# Altium integrated library Cypress PLD Delta39K.IntLib: 82 symbols (part 14 of 21)
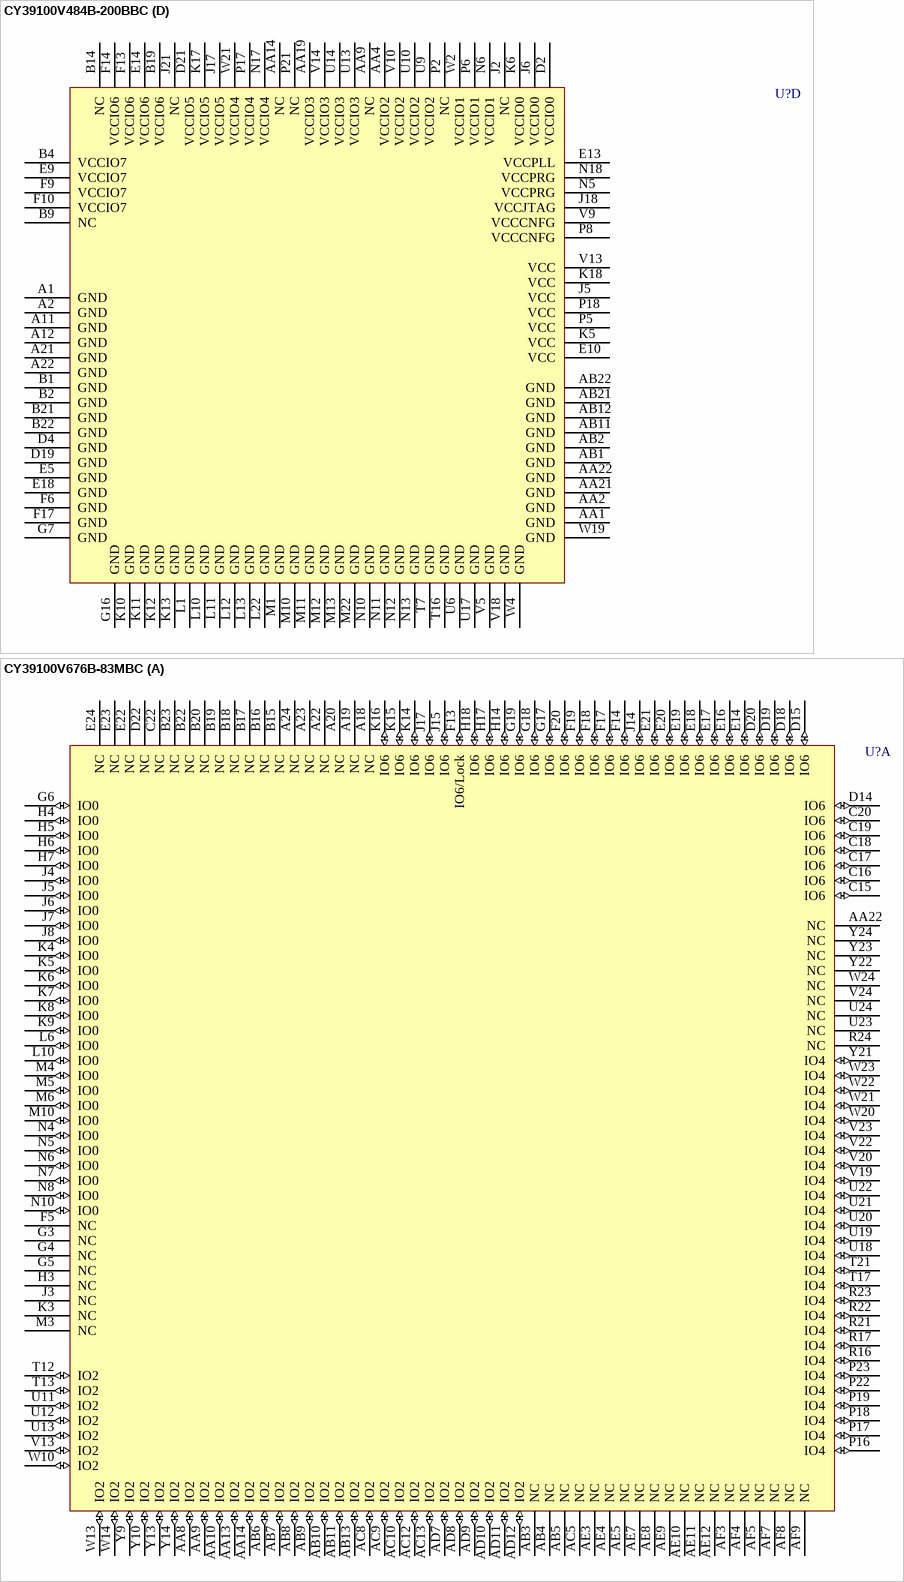
[diagram p91: symbols CY39100V484B-200BBC to CY39100V676B-83MBC]

## CY39100V484B-200BBC
designator U?
Delta39K ISR CPLD, 3.3V/2.5V, 100K Gates, 200 MHz, 484-Ball FBGA, Commercial Grade; Published: 6-Oct-2005; LatestRevisionDate: 13-Apr-2006; LatestRevisionNote: IPC-7351 Footprint Added.; DatasheetVersion: revI, Mar-2005; PackageVersion: Mar-2005; PackageReference: BB484; Publisher: Altium Limited; PackageDescription: 484-Ball Fine Pitch Ball Grid Array 1 mm Pitch; Code_IPC: BGA100P22X22-484; ComponentLink1Description: Manufacturer Link; ComponentLink1URL: http://www.cypress.com/; ComponentLink2Description: Datasheet; ComponentLink2URL: http://www.cypress.com/portal/server.pt/gateway/PTARGS_0_601270_1522_209_0_43/http%3B/sjapp20.mis.cypress.com%3B7001/publishedcontent/publish/design_resources/datasheets/contents/cy39030v_5.pdf
footprint BB484 (BGA, 484-Leads, Body 23x23mm, Pitch 1mm)
3D model CY39100V484-BB484 (484-Ball Fine Pitch Ball Grid Array 1 mm Pitch)
part A pins: A13 IO6 (io) "IO for Bank 6", A14 IO6 (io) "IO for Bank 6", A15 IO6 (io) "IO for Bank 6", A16 IO6 (io) "IO for Bank 6", A17 IO6 (io) "IO for Bank 6", A18 IO6 (io) "IO for Bank 6", A20 NC "No Connection", AA3 NC "No Connection", AA6 IO2 (io) "IO for Bank 2", AA7 IO2 (io) "IO for Bank 2", AA8 IO2 (io) "IO for Bank 2", AA10 IO2 (io) "IO for Bank 2", AA11 IO2 (io) "IO for Bank 2", AB5 IO2 (io) "IO for Bank 2", AB6 IO2 (io) "IO for Bank 2", AB7 IO2 (io) "IO for Bank 2", AB8 IO2 (io) "IO for Bank 2", AB9 IO2 (io) "IO for Bank 2", AB10 IO2 (io) "IO for Bank 2", B12 IO6 (io) "IO for Bank 6", B13 IO6 (io) "IO for Bank 6", B16 IO6 (io) "IO for Bank 6", B17 IO6 (io) "IO for Bank 6", B18 IO6 (io) "IO for Bank 6", B20 NC "No Connection", C12 IO6 (io) "IO for Bank 6", C14 IO6 (io) "IO for Bank 6", C15 IO6 (io) "IO for Bank 6", C16 IO6 (io) "IO for Bank 6", C17 IO6 (io) "IO for Bank 6", C18 IO6 (io) "IO for Bank 6", C19 IO6 (io) "IO for Bank 6", C20 NC "No Connection", C21 NC "No Connection", C22 NC "No Connection", D3 NC "No Connection", D11 IO6/Lock (io) "IO in Bank 6 or PLL lock output signal", D12 IO6 (io) "IO for Bank 6", D15 IO6 (io) "IO for Bank 6", D16 IO6 (io) "IO for Bank 6", D17 IO6 (io) "IO for Bank 6", D18 IO6 (io) "IO for Bank 6", E1 NC "No Connection", E2 NC "No Connection", E3 NC "No Connection", E4 IO0 (io) "IO for Bank 0", E15 IO6 (io) "IO for Bank 6", E16 IO6 (io) "IO for Bank 6", E17 IO6 (io) "IO for Bank 6", F1 NC "No Connection", F2 IO0 (io) "IO for Bank 0", F3 IO0 (io) "IO for Bank 0", F4 IO0 (io) "IO for Bank 0", F5 IO0 (io) "IO for Bank 0", F12 IO6 (io) "IO for Bank 6", F15 IO6 (io) "IO for Bank 6", F16 IO6 (io) "IO for Bank 6", G1 NC "No Connection", G2 IO0 (io) "IO for Bank 0", G3 IO0 (io) "IO for Bank 0", G4 IO0 (io) "IO for Bank 0", G5 IO0 (io) "IO for Bank 0", G6 IO0 (io) "IO for Bank 0", G12 IO6 (io) "IO for Bank 6", G13 IO6 (io) "IO for Bank 6", G15 IO6 (io) "IO for Bank 6", H1 NC "No Connection", H2 IO0 (io) "IO for Bank 0", H3 IO0 (io) "IO for Bank 0", H4 IO0 (io) "IO for Bank 0", H5 IO0 (io) "IO for Bank 0", H6 IO0 (io) "IO for Bank 0", H7 IO0 (io) "IO for Bank 0", H12 IO6 (io) "IO for Bank 6", H13 IO6 (io) "IO for Bank 6", H14 IO6 (io) "IO for Bank 6", J4 IO0 (io) "IO for Bank 0", J8 IO0 (io) "IO for Bank 0", K1 NC "No Connection", K2 IO0 (io) "IO for Bank 0", K3 IO0 (io) "IO for Bank 0", K4 IO0 (io) "IO for Bank 0", K8 IO0 (io) "IO for Bank 0", L2 IO0 (io) "IO for Bank 0", L3 IO0 (io) "IO for Bank 0", L4 IO0 (io) "IO for Bank 0", L5 IO0 (io) "IO for Bank 0", L6 IO0 (io) "IO for Bank 0", L8 IO0 (io) "IO for Bank 0", M14 IO4 (io) "IO for Bank 4", M15 IO4 (io) "IO for Bank 4", M16 IO4 (io) "IO for Bank 4", M17 IO4 (io) "IO for Bank 4", M20 IO4 (io) "IO for Bank 4", M21 IO4 (io) "IO for Bank 4", N14 IO4 (io) "IO for Bank 4", N15 IO4 (io) "IO for Bank 4", N19 IO4 (io) "IO for Bank 4", N20 IO4 (io) "IO for Bank 4", N21 IO4 (io) "IO for Bank 4", N22 NC "No Connection", P10 IO2 (io) "IO for Bank 2", P11 IO2 (io) "IO for Bank 2", P15 IO4 (io) "IO for Bank 4", P19 IO4 (io) "IO for Bank 4", R9 IO2 (io) "IO for Bank 2", R10 IO2 (io) "IO for Bank 2", R11 IO2 (io) "IO for Bank 2", R16 IO4 (io) "IO for Bank 4", R17 IO4 (io) "IO for Bank 4", R18 IO4 (io) "IO for Bank 4", R19 IO4 (io) "IO for Bank 4", R20 IO4 (io) "IO for Bank 4", R21 IO4 (io) "IO for Bank 4", R22 NC "No Connection", T11 IO2 (io) "IO for Bank 2", T17 IO4 (io) "IO for Bank 4", T18 IO4 (io) "IO for Bank 4", T20 IO4 (io) "IO for Bank 4", T21 IO4 (io) "IO for Bank 4", T22 NC "No Connection", U8 IO2 (io) "IO for Bank 2", U11 IO2 (io) "IO for Bank 2", U12 IO2 (io) "IO for Bank 2", U18 IO4 (io) "IO for Bank 4", U19 IO4 (io) "IO for Bank 4", U20 IO4 (io) "IO for Bank 4", U21 IO4 (io) "IO for Bank 4", U22 NC "No Connection", V7 IO2 (io) "IO for Bank 2", V8 IO2 (io) "IO for Bank 2", V11 IO2 (io) "IO for Bank 2", V12 IO2 (io) "IO for Bank 2", V19 NC "No Connection", V20 NC "No Connection", V21 NC "No Connection", V22 NC "No Connection", W6 IO2 (io) "IO for Bank 2", W7 IO2 (io) "IO for Bank 2", W8 IO2 (io) "IO for Bank 2", W11 IO2 (io) "IO for Bank 2", W12 IO2 (io) "IO for Bank 2", W20 NC "No Connection", Y1 NC "No Connection", Y2 NC "No Connection", Y3 NC "No Connection", Y4 IO2 (io) "IO for Bank 2", Y5 IO2 (io) "IO for Bank 2", Y6 IO2 (io) "IO for Bank 2", Y7 IO2 (io) "IO for Bank 2", Y8 IO2 (io) "IO for Bank 2", Y9 IO2 (io) "IO for Bank 2", Y11 IO2 (io) "IO for Bank 2"
part B pins: A5 IO7 (io) "IO for Bank 7", A6 IO7 (io) "IO for Bank 7", A7 IO7 (io) "IO for Bank 7", A8 IO7 (io) "IO for Bank 7", A9 IO7 (io) "IO for Bank 7", A10 IO7 (io) "IO for Bank 7", AA12 IO3 (io) "IO for Bank 3", AA13 IO3 (io) "IO for Bank 3", AA15 IO3 (io) "IO for Bank 3", AA16 IO3 (io) "IO for Bank 3", AA17 IO3 (io) "IO for Bank 3", AA20 NC "No Connection", AB13 IO3 (io) "IO for Bank 3", AB14 IO3 (io) "IO for Bank 3", AB15 IO3 (io) "IO for Bank 3", AB16 IO3 (io) "IO for Bank 3", AB17 IO3 (io) "IO for Bank 3", AB18 IO3 (io) "IO for Bank 3", AB20 NC "No Connection", B3 NC "No Connection", B5 IO7 (io) "IO for Bank 7", B6 IO7 (io) "IO for Bank 7", B7 IO7 (io) "IO for Bank 7", B10 IO7 (io) "IO for Bank 7", B11 IO7 (io) "IO for Bank 7", C1 NC "No Connection", C2 NC "No Connection", C3 NC "No Connection", C4 IO7 (io) "IO for Bank 7", C5 IO7 (io) "IO for Bank 7", C6 IO7 (io) "IO for Bank 7", C7 IO7 (io) "IO for Bank 7", C8 IO7 (io) "IO for Bank 7", C9 IO7 (io) "IO for Bank 7", C11 IO7 (io) "IO for Bank 7", D5 IO7 (io) "IO for Bank 7", D6 IO7 (io) "IO for Bank 7", D7 IO7 (io) "IO for Bank 7", D8 IO7 (io) "IO for Bank 7", D20 NC "No Connection", E6 IO7 (io) "IO for Bank 7", E7 IO7 (io) "IO for Bank 7", E8 IO7 (io) "IO for Bank 7", E20 NC "No Connection", E21 NC "No Connection", E22 NC "No Connection", F7 IO7 (io) "IO for Bank 7", F8 IO7 (io) "IO for Bank 7", F11 IO7 (io) "IO for Bank 7", F19 IO5 (io) "IO for Bank 5", F20 IO5 (io) "IO for Bank 5", F21 IO5 (io) "IO for Bank 5", F22 NC "No Connection", G8 IO7 (io) "IO for Bank 7", G10 IO7 (io) "IO for Bank 7", G11 IO7 (io) "IO for Bank 7", G18 IO5 (io) "IO for Bank 5", G19 IO5 (io) "IO for Bank 5", G20 IO5 (io) "IO for Bank 5", G21 IO5 (io) "IO for Bank 5", G22 NC "No Connection", H8 IO7 (io) "IO for Bank 7", H9 IO7 (io) "IO for Bank 7", H10 IO7 (io) "IO for Bank 7", H11 IO7 (io) "IO for Bank 7", H16 IO5 (io) "IO for Bank 5", H17 IO5 (io) "IO for Bank 5", H18 IO5 (io) "IO for Bank 5", H19 IO5 (io) "IO for Bank 5", H20 IO5 (io) "IO for Bank 5", H21 IO5 (io) "IO for Bank 5", H22 NC "No Connection", J9 IO7 (io) "IO for Bank 7", J14 IO5 (io) "IO for Bank 5", J15 IO5 (io) "IO for Bank 5", J19 IO5 (io) "IO for Bank 5", K15 IO5 (io) "IO for Bank 5", K19 IO5 (io) "IO for Bank 5", K20 IO5 (io) "IO for Bank 5", K21 IO5 (io) "IO for Bank 5", K22 NC "No Connection", L15 IO5 (io) "IO for Bank 5", L17 IO5 (io) "IO for Bank 5", L18 IO5 (io) "IO for Bank 5", L19 IO5 (io) "IO for Bank 5", L20 IO5 (io) "IO for Bank 5", L21 IO5 (io) "IO for Bank 5", M2 IO1 (io) "IO for Bank 1", M3 IO1 (io) "IO for Bank 1", M4 IO1 (io) "IO for Bank 1", M5 IO1 (io) "IO for Bank 1", M6 IO1 (io) "IO for Bank 1", M7 IO1 (io) "IO for Bank 1", M8 IO1 (io) "IO for Bank 1", M9 IO1 (io) "IO for Bank 1", M18 IO5 (io) "IO for Bank 5", M19 IO5 (io) "IO for Bank 5", N1 NC "No Connection", N2 IO1 (io) "IO for Bank 1", N3 IO1 (io) "IO for Bank 1", N4 IO1 (io) "IO for Bank 1", N8 IO1 (io) "IO for Bank 1", N9 IO1 (io) "IO for Bank 1", P4 IO1 (io) "IO for Bank 1", P12 IO3 (io) "IO for Bank 3", P13 IO3 (io) "IO for Bank 3", P14 IO3 (io) "IO for Bank 3", R1 NC "No Connection", R2 IO1 (io) "IO for Bank 1", R3 IO1 (io) "IO for Bank 1", R4 IO1 (io) "IO for Bank 1", R5 IO1 (io) "IO for Bank 1", R6 IO1 (io) "IO for Bank 1", R12 IO3 (io) "IO for Bank 3", R13 IO3 (io) "IO for Bank 3", R14 IO3 (io) "IO for Bank 3", R15 IO3 (io) "IO for Bank 3", T1 NC "No Connection", T2 IO1 (io) "IO for Bank 1", T3 IO1 (io) "IO for Bank 1", T5 IO1 (io) "IO for Bank 1", T6 IO1 (io) "IO for Bank 1", T12 IO3 (io) "IO for Bank 3", T15 IO3 (io) "IO for Bank 3", U1 NC "No Connection", U2 IO1 (io) "IO for Bank 1", U3 IO1 (io) "IO for Bank 1", U4 IO1 (io) "IO for Bank 1", U5 IO1 (io) "IO for Bank 1", U15 IO3 (io) "IO for Bank 3", U16 IO3 (io) "IO for Bank 3", V1 NC "No Connection", V2 NC "No Connection", V3 NC "No Connection", V4 NC "No Connection", V15 IO3 (io) "IO for Bank 3", V16 IO3 (io) "IO for Bank 3", V17 IO3 (io) "IO for Bank 3", W3 NC "No Connection", W15 IO3 (io) "IO for Bank 3", W16 IO3 (io) "IO for Bank 3", W17 IO3 (io) "IO for Bank 3", W18 IO3 (io) "IO for Bank 3", Y12 IO3 (io) "IO for Bank 3", Y14 IO3 (io) "IO for Bank 3", Y15 IO3 (io) "IO for Bank 3", Y16 IO3 (io) "IO for Bank 3", Y17 IO3 (io) "IO for Bank 3", Y18 IO3 (io) "IO for Bank 3", Y19 IO3 (io) "IO for Bank 3", Y20 NC "No Connection", Y21 NC "No Connection", Y22 NC "No Connection"
part C pins: A3 NC "No Connection", A4 NC "No Connection", A19 NC "No Connection", AA5 IO/VREF2 (io) "IO or Reference Voltage for Bank 2", AA18 IO/VREF3 (io) "IO or Reference Voltage for Bank 3", AB3 NC "No Connection", AB4 NC "No Connection", AB19 NC "No Connection", B8 IO/VREF7 (io) "IO or Reference Voltage for Bank 7", B15 IO/VREF6 (io) "IO or Reference Voltage for Bank 6", C10 IO/VREF7 (io) "IO or Reference Voltage for Bank 7", C13 IO/VREF6 (io) "IO or Reference Voltage for Bank 6", D1 NC "No Connection", D9 IO/VREF7 (io) "IO or Reference Voltage for Bank 7", D10 IO/VREF7 (io) "IO or Reference Voltage for Bank 7", D13 IO/VREF6 (io) "IO or Reference Voltage for Bank 6", D14 IO/VREF6 (io) "IO or Reference Voltage for Bank 6", D22 NC "No Connection", E11 IO/VREF7 (io) "IO or Reference Voltage for Bank 7", E12 IO/VREF6 (io) "IO or Reference Voltage for Bank 6", E19 TDO (out) "JTAG Test Data Out", F18 TDI (in) "JTAG Test Data In", G9 IO/VREF7 (io) "IO or Reference Voltage for Bank 7", G14 IO/VREF6 (io) "IO or Reference Voltage for Bank 6", G17 TCLK (in) "JTAG Test Clock", H15 TMS (in) "JTAG Test Mode Select", J1 NC "No Connection", J3 IO/VREF0 (io) "IO or Reference Voltage for Bank 0", J7 IO/VREF0 (io) "IO or Reference Voltage for Bank 0", J10 GCTL3 (in) "Global Control signal 3", J11 GCLK3 (in) "Global Clock signal 3", J12 GCTL2 (in) "Global Control signal 2", J13 GCLK2 (in) "Global Clock signal 2", J16 IO/VREF5 (io) "IO or Reference Voltage for Bank 5", J20 IO/VREF5 (io) "IO or Reference Voltage for Bank 5", J22 NC "No Connection", K7 IO/VREF0 (io) "IO or Reference Voltage for Bank 0", K9 GCTL0 (in) "Global Control signal 0", K14 GCTL1 (in) "Global Control signal 1", K16 IO/VREF5 (io) "IO or Reference Voltage for Bank 5", L7 IO/VREF0 (io) "IO or Reference Voltage for Bank 0", L9 GCLK0 (in) "Global Clock signal 0", L14 GCLK1 (in) "Global Clock signal 1", L16 IO/VREF5 (io) "IO or Reference Voltage for Bank 5", N7 IO/VREF1 (io) "IO or Reference Voltage for Bank 1", N16 IO/VREF4 (io) "IO or Reference Voltage for Bank 4", P1 NC "No Connection", P3 IO/VREF1 (io) "IO or Reference Voltage for Bank 1", P7 IO/VREF1 (io) "IO or Reference Voltage for Bank 1", P9 Config_Done (out) "Flag indicating that configuration is complete", P16 IO/VREF4 (io) "IO or Reference Voltage for Bank 4", P20 IO/VREF4 (io) "IO or Reference Voltage for Bank 4", P22 NC "No Connection", R7 Data (in) "Pin to receive configuration data from the external boot PROM", R8 Reconfig (in) "Pin to start configuration of Delta39K", T4 IO/VREF1 (io) "IO or Reference Voltage for Bank 1", T8 MSEL (in) "Mode Select Pin", T9 IO/VREF2 (io) "IO or Reference Voltage for Bank 2", T10 IO/VREF2 (io) "IO or Reference Voltage for Bank 2", T13 IO/VREF3 (io) "IO or Reference Voltage for Bank 3", T14 IO/VREF3 (io) "IO or Reference Voltage for Bank 3", T19 IO/VREF4 (io) "IO or Reference Voltage for Bank 4", U7 ~{CCE} (out) "Chip select for the external boot PROM (active low)", V6 CCLK (out) "Configuration Clock for serial interface with the external boot PROM", W1 NC "No Connection", W5 Reset (out) "Reset signal to interface with the external boot PROM", W9 IO/VREF2 (io) "IO or Reference Voltage for Bank 2", W10 IO/VREF2 (io) "IO or Reference Voltage for Bank 2", W13 IO/VREF3 (io) "IO or Reference Voltage for Bank 3", W14 IO/VREF3 (io) "IO or Reference Voltage for Bank 3", W22 NC "No Connection", Y10 IO/VREF2 (io) "IO or Reference Voltage for Bank 2", Y13 IO/VREF3 (io) "IO or Reference Voltage for Bank 3"
part D pins: A1 GND (power) "Ground", A2 GND (power) "Ground", A11 GND (power) "Ground", A12 GND (power) "Ground", A21 GND (power) "Ground", A22 GND (power) "Ground", AA1 GND (power) "Ground", AA2 GND (power) "Ground", AA4 VCCIO2 (power) "VCC for I/O bank 2", AA9 NC "No Connection", AA14 NC "No Connection", AA19 VCCIO3 (power) "VCC for I/O bank 3", AA21 GND (power) "Ground", AA22 GND (power) "Ground", AB1 GND (power) "Ground", AB2 GND (power) "Ground", AB11 GND (power) "Ground", AB12 GND (power) "Ground", AB21 GND (power) "Ground", AB22 GND (power) "Ground", B1 GND (power) "Ground", B2 GND (power) "Ground", B4 VCCIO7 (power) "VCC for I/O bank 7", B9 NC "No Connection", B14 NC "No Connection", B19 VCCIO6 (power) "VCC for I/O bank 6", B21 GND (power) "Ground", B22 GND (power) "Ground", D2 VCCIO0 (power) "VCC for I/O bank 0", D4 GND (power) "Ground", D19 GND (power) "Ground", D21 VCCIO5 (power) "VCC for I/O bank 5", E5 GND (power) "Ground", E9 VCCIO7 (power) "VCC for I/O bank 7", E10 VCC (power) "Operating Voltage", E13 VCCPLL (power) "VCC for PLL", E14 VCCIO6 (power) "VCC for I/O bank 6", E18 GND (power) "Ground", F6 GND (power) "Ground", F9 VCCIO7 (power) "VCC for I/O bank 7", F10 VCCIO7 (power) "VCC for I/O bank 7", F13 VCCIO6 (power) "VCC for I/O bank 6", F14 VCCIO6 (power) "VCC for I/O bank 6", F17 GND (power) "Ground", G7 GND (power) "Ground", G16 GND (power) "Ground", J2 NC "No Connection", J5 VCC (power) "Operating Voltage", J6 VCCIO0 (power) "VCC for I/O bank 0", J17 VCCIO5 (power) "VCC for I/O bank 5", J18 VCCJTAG (power) "VCC for JTAG pins", J21 NC "No Connection", K5 VCC (power) "Operating Voltage", K6 VCCIO0 (power) "VCC for I/O bank 0", K10 GND (power) "Ground", K11 GND (power) "Ground", K12 GND (power) "Ground", K13 GND (power) "Ground", K17 VCCIO5 (power) "VCC for I/O bank 5", K18 VCC (power) "Operating Voltage", L1 GND (power) "Ground", L10 GND (power) "Ground", L11 GND (power) "Ground", L12 GND (power) "Ground", L13 GND (power) "Ground", L22 GND (power) "Ground", M1 GND (power) "Ground", M10 GND (power) "Ground", M11 GND (power) "Ground", M12 GND (power) "Ground", M13 GND (power) "Ground", M22 GND (power) "Ground", N5 VCCPRG (power) "VCC for programming Self-Boot solution embedded boot PROM", N6 VCCIO1 (power) "VCC for I/O bank 1", N10 GND (power) "Ground", N11 GND (power) "Ground", N12 GND (power) "Ground", N13 GND (power) "Ground", N17 VCCIO4 (power) "VCC for I/O bank 4", N18 VCCPRG (power) "VCC for programming Self-Boot solution embedded boot PROM", P2 NC "No Connection", P5 VCC (power) "Operating Voltage", P6 VCCIO1 (power) "VCC for I/O bank 1", P8 VCCCNFG (power) "VCC for Configuration port", P17 VCCIO4 (power) "VCC for I/O bank 4", P18 VCC (power) "Operating Voltage", P21 NC "No Connection", T7 GND (power) "Ground", T16 GND (power) "Ground", U6 GND (power) "Ground", U9 VCCIO2 (power) "VCC for I/O bank 2", U10 VCCIO2 (power) "VCC for I/O bank 2", U13 VCCIO3 (power) "VCC for I/O bank 3", U14 VCCIO3 (power) "VCC for I/O bank 3", U17 GND (power) "Ground", V5 GND (power) "Ground", V9 VCCCNFG (power) "VCC for Configuration port", V10 VCCIO2 (power) "VCC for I/O bank 2", V13 VCC (power) "Operating Voltage", V14 VCCIO3 (power) "VCC for I/O bank 3", V18 GND (power) "Ground", W2 VCCIO1 (power) "VCC for I/O bank 1", W4 GND (power) "Ground", W19 GND (power) "Ground", W21 VCCIO4 (power) "VCC for I/O bank 4"

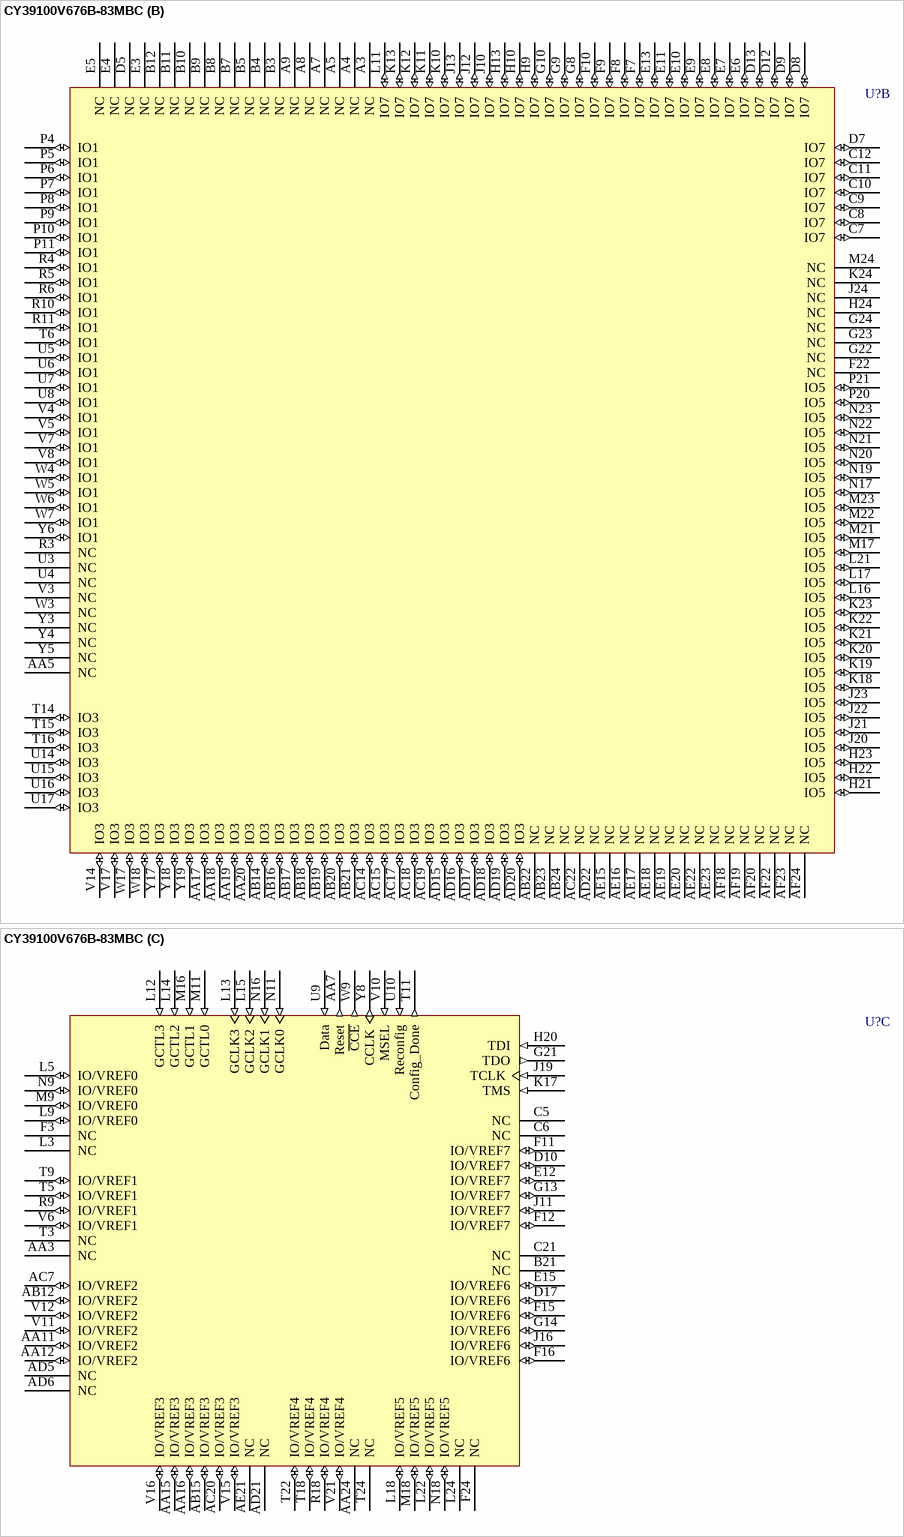
[diagram p46: symbol CY39100V676B-83MBC]

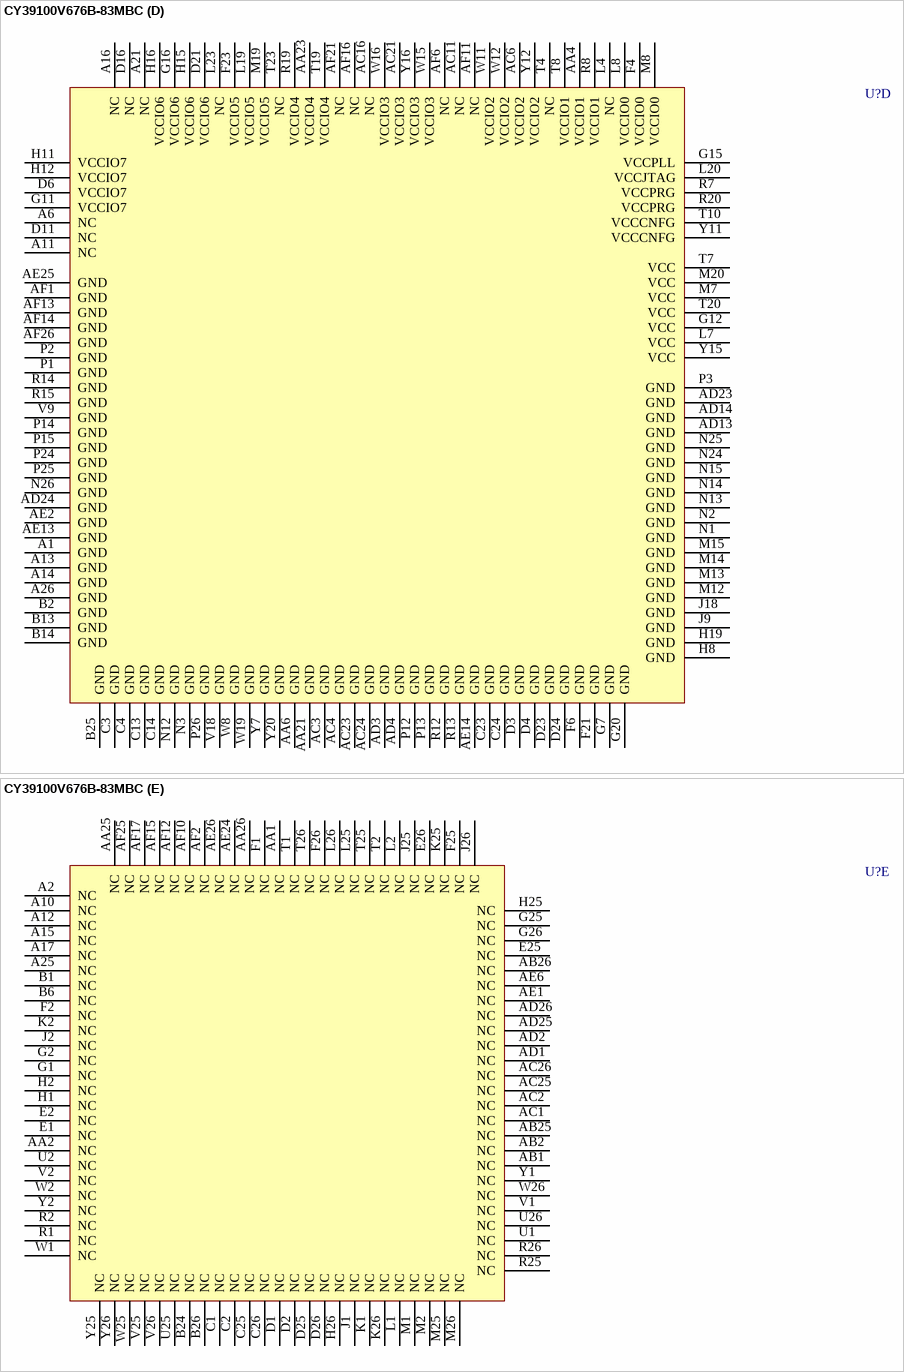
[diagram p47: symbol CY39100V676B-83MBC]

## CY39100V676B-83MBC
designator U?
Delta39K ISR CPLD, 3.3V/2.5V, 100K Gates, 83 MHz, 676-Ball FBGA, Commercial Grade; ComponentAvailability: Obsolete; Published: 11-Dec-2002; LatestRevisionDate: 13-Apr-2006; LatestRevisionNote: IPC-7351 Footprint Added.; DatasheetVersion: revI, Mar-2005; PackageVersion: Mar-2005; PackageReference: MB676; Publisher: Altium Limited; PackageDescription: 676-Ball Fine Pitch Ball Grid Array 1 mm Pitch; ComponentLink1Description: Manufacturer Link; ComponentLink1URL: http://www.cypress.com/; ComponentLink2Description: Datasheet; ComponentLink2URL: http://www.cypress.com/portal/server.pt/gateway/PTARGS_0_601270_1522_209_0_43/http%3B/sjapp20.mis.cypress.com%3B7001/publishedcontent/publish/design_resources/datasheets/contents/cy39030v_5.pdf
footprint MB676 (BGA, 676-Leads, Body 27x27mm, Pitch 1mm)
3D model CY39100V676-MB676 (676-Ball Fine Pitch Ball Grid Array 1 mm Pitch)
part A pins: A18 NC "No Connection", A19 NC "No Connection", A20 NC "No Connection", A22 NC "No Connection", A23 NC "No Connection", A24 NC "No Connection", AA8 IO2 (io) "IO for Bank 2", AA9 IO2 (io) "IO for Bank 2", AA10 IO2 (io) "IO for Bank 2", AA13 IO2 (io) "IO for Bank 2", AA14 IO2 (io) "IO for Bank 2", AA22 NC "No Connection", AB3 NC "No Connection", AB4 NC "No Connection", AB5 NC "No Connection", AB6 IO2 (io) "IO for Bank 2", AB7 IO2 (io) "IO for Bank 2", AB8 IO2 (io) "IO for Bank 2", AB9 IO2 (io) "IO for Bank 2", AB10 IO2 (io) "IO for Bank 2", AB11 IO2 (io) "IO for Bank 2", AB13 IO2 (io) "IO for Bank 2", AC5 NC "No Connection", AC8 IO2 (io) "IO for Bank 2", AC9 IO2 (io) "IO for Bank 2", AC10 IO2 (io) "IO for Bank 2", AC12 IO2 (io) "IO for Bank 2", AC13 IO2 (io) "IO for Bank 2", AD7 IO2 (io) "IO for Bank 2", AD8 IO2 (io) "IO for Bank 2", AD9 IO2 (io) "IO for Bank 2", AD10 IO2 (io) "IO for Bank 2", AD11 IO2 (io) "IO for Bank 2", AD12 IO2 (io) "IO for Bank 2", AE3 NC "No Connection", AE4 NC "No Connection", AE5 NC "No Connection", AE7 NC "No Connection", AE8 NC "No Connection", AE9 NC "No Connection", AE10 NC "No Connection", AE11 NC "No Connection", AE12 NC "No Connection", AF3 NC "No Connection", AF4 NC "No Connection", AF5 NC "No Connection", AF7 NC "No Connection", AF8 NC "No Connection", AF9 NC "No Connection", B15 NC "No Connection", B16 NC "No Connection", B17 NC "No Connection", B18 NC "No Connection", B19 NC "No Connection", B20 NC "No Connection", B22 NC "No Connection", B23 NC "No Connection", C15 IO6 (io) "IO for Bank 6", C16 IO6 (io) "IO for Bank 6", C17 IO6 (io) "IO for Bank 6", C18 IO6 (io) "IO for Bank 6", C19 IO6 (io) "IO for Bank 6", C20 IO6 (io) "IO for Bank 6", C22 NC "No Connection", D14 IO6 (io) "IO for Bank 6", D15 IO6 (io) "IO for Bank 6", D18 IO6 (io) "IO for Bank 6", D19 IO6 (io) "IO for Bank 6", D20 IO6 (io) "IO for Bank 6", D22 NC "No Connection", E14 IO6 (io) "IO for Bank 6", E16 IO6 (io) "IO for Bank 6", E17 IO6 (io) "IO for Bank 6", E18 IO6 (io) "IO for Bank 6", E19 IO6 (io) "IO for Bank 6", E20 IO6 (io) "IO for Bank 6", E21 IO6 (io) "IO for Bank 6", E22 NC "No Connection", E23 NC "No Connection", E24 NC "No Connection", F5 NC "No Connection", F13 IO6/Lock (io) "IO in Bank 6 or PLL lock output signal", F14 IO6 (io) "IO for Bank 6", F17 IO6 (io) "IO for Bank 6", F18 IO6 (io) "IO for Bank 6", F19 IO6 (io) "IO for Bank 6", F20 IO6 (io) "IO for Bank 6", G3 NC "No Connection", G4 NC "No Connection", G5 NC "No Connection", G6 IO0 (io) "IO for Bank 0", G17 IO6 (io) "IO for Bank 6", G18 IO6 (io) "IO for Bank 6", G19 IO6 (io) "IO for Bank 6", H3 NC "No Connection", H4 IO0 (io) "IO for Bank 0", H5 IO0 (io) "IO for Bank 0", H6 IO0 (io) "IO for Bank 0", H7 IO0 (io) "IO for Bank 0", H14 IO6 (io) "IO for Bank 6", H17 IO6 (io) "IO for Bank 6", H18 IO6 (io) "IO for Bank 6", J3 NC "No Connection", J4 IO0 (io) "IO for Bank 0", J5 IO0 (io) "IO for Bank 0", J6 IO0 (io) "IO for Bank 0", J7 IO0 (io) "IO for Bank 0", J8 IO0 (io) "IO for Bank 0", J14 IO6 (io) "IO for Bank 6", J15 IO6 (io) "IO for Bank 6", J17 IO6 (io) "IO for Bank 6", K3 NC "No Connection", K4 IO0 (io) "IO for Bank 0", K5 IO0 (io) "IO for Bank 0", K6 IO0 (io) "IO for Bank 0", K7 IO0 (io) "IO for Bank 0", K8 IO0 (io) "IO for Bank 0", K9 IO0 (io) "IO for Bank 0", K14 IO6 (io) "IO for Bank 6", K15 IO6 (io) "IO for Bank 6", K16 IO6 (io) "IO for Bank 6", L6 IO0 (io) "IO for Bank 0", L10 IO0 (io) "IO for Bank 0", M3 NC "No Connection", M4 IO0 (io) "IO for Bank 0", M5 IO0 (io) "IO for Bank 0", M6 IO0 (io) "IO for Bank 0", M10 IO0 (io) "IO for Bank 0", N4 IO0 (io) "IO for Bank 0", N5 IO0 (io) "IO for Bank 0", N6 IO0 (io) "IO for Bank 0", N7 IO0 (io) "IO for Bank 0", N8 IO0 (io) "IO for Bank 0", N10 IO0 (io) "IO for Bank 0", P16 IO4 (io) "IO for Bank 4", P17 IO4 (io) "IO for Bank 4", P18 IO4 (io) "IO for Bank 4", P19 IO4 (io) "IO for Bank 4", P22 IO4 (io) "IO for Bank 4", P23 IO4 (io) "IO for Bank 4", R16 IO4 (io) "IO for Bank 4", R17 IO4 (io) "IO for Bank 4", R21 IO4 (io) "IO for Bank 4", R22 IO4 (io) "IO for Bank 4", R23 IO4 (io) "IO for Bank 4", R24 NC "No Connection", T12 IO2 (io) "IO for Bank 2", T13 IO2 (io) "IO for Bank 2", T17 IO4 (io) "IO for Bank 4", T21 IO4 (io) "IO for Bank 4", U11 IO2 (io) "IO for Bank 2", U12 IO2 (io) "IO for Bank 2", U13 IO2 (io) "IO for Bank 2", U18 IO4 (io) "IO for Bank 4", U19 IO4 (io) "IO for Bank 4", U20 IO4 (io) "IO for Bank 4", U21 IO4 (io) "IO for Bank 4", U22 IO4 (io) "IO for Bank 4", U23 NC "No Connection", U24 NC "No Connection", V13 IO2 (io) "IO for Bank 2", V19 IO4 (io) "IO for Bank 4", V20 IO4 (io) "IO for Bank 4", V22 IO4 (io) "IO for Bank 4", V23 IO4 (io) "IO for Bank 4", V24 NC "No Connection", W10 IO2 (io) "IO for Bank 2", W13 IO2 (io) "IO for Bank 2", W14 IO2 (io) "IO for Bank 2", W20 IO4 (io) "IO for Bank 4", W21 IO4 (io) "IO for Bank 4", W22 IO4 (io) "IO for Bank 4", W23 IO4 (io) "IO for Bank 4", W24 NC "No Connection", Y9 IO2 (io) "IO for Bank 2", Y10 IO2 (io) "IO for Bank 2", Y13 IO2 (io) "IO for Bank 2", Y14 IO2 (io) "IO for Bank 2", Y21 IO4 (io) "IO for Bank 4", Y22 NC "No Connection", Y23 NC "No Connection", Y24 NC "No Connection"
part B pins: A3 NC "No Connection", A4 NC "No Connection", A5 NC "No Connection", A7 NC "No Connection", A8 NC "No Connection", A9 NC "No Connection", AA5 NC "No Connection", AA17 IO3 (io) "IO for Bank 3", AA18 IO3 (io) "IO for Bank 3", AA19 IO3 (io) "IO for Bank 3", AA20 IO3 (io) "IO for Bank 3", AB14 IO3 (io) "IO for Bank 3", AB16 IO3 (io) "IO for Bank 3", AB17 IO3 (io) "IO for Bank 3", AB18 IO3 (io) "IO for Bank 3", AB19 IO3 (io) "IO for Bank 3", AB20 IO3 (io) "IO for Bank 3", AB21 IO3 (io) "IO for Bank 3", AB22 NC "No Connection", AB23 NC "No Connection", AB24 NC "No Connection", AC14 IO3 (io) "IO for Bank 3", AC15 IO3 (io) "IO for Bank 3", AC17 IO3 (io) "IO for Bank 3", AC18 IO3 (io) "IO for Bank 3", AC19 IO3 (io) "IO for Bank 3", AC22 NC "No Connection", AD15 IO3 (io) "IO for Bank 3", AD16 IO3 (io) "IO for Bank 3", AD17 IO3 (io) "IO for Bank 3", AD18 IO3 (io) "IO for Bank 3", AD19 IO3 (io) "IO for Bank 3", AD20 IO3 (io) "IO for Bank 3", AD22 NC "No Connection", AE15 NC "No Connection", AE16 NC "No Connection", AE17 NC "No Connection", AE18 NC "No Connection", AE19 NC "No Connection", AE20 NC "No Connection", AE22 NC "No Connection", AE23 NC "No Connection", AF18 NC "No Connection", AF19 NC "No Connection", AF20 NC "No Connection", AF22 NC "No Connection", AF23 NC "No Connection", AF24 NC "No Connection", B3 NC "No Connection", B4 NC "No Connection", B5 NC "No Connection", B7 NC "No Connection", B8 NC "No Connection", B9 NC "No Connection", B10 NC "No Connection", B11 NC "No Connection", B12 NC "No Connection", C7 IO7 (io) "IO for Bank 7", C8 IO7 (io) "IO for Bank 7", C9 IO7 (io) "IO for Bank 7", C10 IO7 (io) "IO for Bank 7", C11 IO7 (io) "IO for Bank 7", C12 IO7 (io) "IO for Bank 7", D5 NC "No Connection", D7 IO7 (io) "IO for Bank 7", D8 IO7 (io) "IO for Bank 7", D9 IO7 (io) "IO for Bank 7", D12 IO7 (io) "IO for Bank 7", D13 IO7 (io) "IO for Bank 7", E3 NC "No Connection", E4 NC "No Connection", E5 NC "No Connection", E6 IO7 (io) "IO for Bank 7", E7 IO7 (io) "IO for Bank 7", E8 IO7 (io) "IO for Bank 7", E9 IO7 (io) "IO for Bank 7", E10 IO7 (io) "IO for Bank 7", E11 IO7 (io) "IO for Bank 7", E13 IO7 (io) "IO for Bank 7", F7 IO7 (io) "IO for Bank 7", F8 IO7 (io) "IO for Bank 7", F9 IO7 (io) "IO for Bank 7", F10 IO7 (io) "IO for Bank 7", F22 NC "No Connection", G8 IO7 (io) "IO for Bank 7", G9 IO7 (io) "IO for Bank 7", G10 IO7 (io) "IO for Bank 7", G22 NC "No Connection", G23 NC "No Connection", G24 NC "No Connection", H9 IO7 (io) "IO for Bank 7", H10 IO7 (io) "IO for Bank 7", H13 IO7 (io) "IO for Bank 7", H21 IO5 (io) "IO for Bank 5", H22 IO5 (io) "IO for Bank 5", H23 IO5 (io) "IO for Bank 5", H24 NC "No Connection", J10 IO7 (io) "IO for Bank 7", J12 IO7 (io) "IO for Bank 7", J13 IO7 (io) "IO for Bank 7", J20 IO5 (io) "IO for Bank 5", J21 IO5 (io) "IO for Bank 5", J22 IO5 (io) "IO for Bank 5", J23 IO5 (io) "IO for Bank 5", J24 NC "No Connection", K10 IO7 (io) "IO for Bank 7", K11 IO7 (io) "IO for Bank 7", K12 IO7 (io) "IO for Bank 7", K13 IO7 (io) "IO for Bank 7", K18 IO5 (io) "IO for Bank 5", K19 IO5 (io) "IO for Bank 5", K20 IO5 (io) "IO for Bank 5", K21 IO5 (io) "IO for Bank 5", K22 IO5 (io) "IO for Bank 5", K23 IO5 (io) "IO for Bank 5", K24 NC "No Connection", L11 IO7 (io) "IO for Bank 7", L16 IO5 (io) "IO for Bank 5", L17 IO5 (io) "IO for Bank 5", L21 IO5 (io) "IO for Bank 5", M17 IO5 (io) "IO for Bank 5", M21 IO5 (io) "IO for Bank 5", M22 IO5 (io) "IO for Bank 5", M23 IO5 (io) "IO for Bank 5", M24 NC "No Connection", N17 IO5 (io) "IO for Bank 5", N19 IO5 (io) "IO for Bank 5", N20 IO5 (io) "IO for Bank 5", N21 IO5 (io) "IO for Bank 5", N22 IO5 (io) "IO for Bank 5", N23 IO5 (io) "IO for Bank 5", P4 IO1 (io) "IO for Bank 1", P5 IO1 (io) "IO for Bank 1", P6 IO1 (io) "IO for Bank 1", P7 IO1 (io) "IO for Bank 1", P8 IO1 (io) "IO for Bank 1", P9 IO1 (io) "IO for Bank 1", P10 IO1 (io) "IO for Bank 1", P11 IO1 (io) "IO for Bank 1", P20 IO5 (io) "IO for Bank 5", P21 IO5 (io) "IO for Bank 5", R3 NC "No Connection", R4 IO1 (io) "IO for Bank 1", R5 IO1 (io) "IO for Bank 1", R6 IO1 (io) "IO for Bank 1", R10 IO1 (io) "IO for Bank 1", R11 IO1 (io) "IO for Bank 1", T6 IO1 (io) "IO for Bank 1", T14 IO3 (io) "IO for Bank 3", T15 IO3 (io) "IO for Bank 3", T16 IO3 (io) "IO for Bank 3", U3 NC "No Connection", U4 NC "No Connection", U5 IO1 (io) "IO for Bank 1", U6 IO1 (io) "IO for Bank 1", U7 IO1 (io) "IO for Bank 1", U8 IO1 (io) "IO for Bank 1", U14 IO3 (io) "IO for Bank 3", U15 IO3 (io) "IO for Bank 3", U16 IO3 (io) "IO for Bank 3", U17 IO3 (io) "IO for Bank 3", V3 NC "No Connection", V4 IO1 (io) "IO for Bank 1", V5 IO1 (io) "IO for Bank 1", V7 IO1 (io) "IO for Bank 1", V8 IO1 (io) "IO for Bank 1", V14 IO3 (io) "IO for Bank 3", V17 IO3 (io) "IO for Bank 3", W3 NC "No Connection", W4 IO1 (io) "IO for Bank 1", W5 IO1 (io) "IO for Bank 1", W6 IO1 (io) "IO for Bank 1", W7 IO1 (io) "IO for Bank 1", W17 IO3 (io) "IO for Bank 3", W18 IO3 (io) "IO for Bank 3", Y3 NC "No Connection", Y4 NC "No Connection", Y5 NC "No Connection", Y6 IO1 (io) "IO for Bank 1", Y17 IO3 (io) "IO for Bank 3", Y18 IO3 (io) "IO for Bank 3", Y19 IO3 (io) "IO for Bank 3"
part C pins: AA3 NC "No Connection", AA7 Reset (out) "Reset signal to interface with the external boot PROM", AA11 IO/VREF2 (io) "IO or Reference Voltage for Bank 2", AA12 IO/VREF2 (io) "IO or Reference Voltage for Bank 2", AA15 IO/VREF3 (io) "IO or Reference Voltage for Bank 3", AA16 IO/VREF3 (io) "IO or Reference Voltage for Bank 3", AA24 NC "No Connection", AB12 IO/VREF2 (io) "IO or Reference Voltage for Bank 2", AB15 IO/VREF3 (io) "IO or Reference Voltage for Bank 3", AC7 IO/VREF2 (io) "IO or Reference Voltage for Bank 2", AC20 IO/VREF3 (io) "IO or Reference Voltage for Bank 3", AD5 NC "No Connection", AD6 NC "No Connection", AD21 NC "No Connection", AE21 NC "No Connection", B21 NC "No Connection", C5 NC "No Connection", C6 NC "No Connection", C21 NC "No Connection", D10 IO/VREF7 (io) "IO or Reference Voltage for Bank 7", D17 IO/VREF6 (io) "IO or Reference Voltage for Bank 6", E12 IO/VREF7 (io) "IO or Reference Voltage for Bank 7", E15 IO/VREF6 (io) "IO or Reference Voltage for Bank 6", F3 NC "No Connection", F11 IO/VREF7 (io) "IO or Reference Voltage for Bank 7", F12 IO/VREF7 (io) "IO or Reference Voltage for Bank 7", F15 IO/VREF6 (io) "IO or Reference Voltage for Bank 6", F16 IO/VREF6 (io) "IO or Reference Voltage for Bank 6", F24 NC "No Connection", G13 IO/VREF7 (io) "IO or Reference Voltage for Bank 7", G14 IO/VREF6 (io) "IO or Reference Voltage for Bank 6", G21 TDO (out) "JTAG Test Data Out", H20 TDI (in) "JTAG Test Data In", J11 IO/VREF7 (io) "IO or Reference Voltage for Bank 7", J16 IO/VREF6 (io) "IO or Reference Voltage for Bank 6", J19 TCLK (in) "JTAG Test Clock", K17 TMS (in) "JTAG Test Mode Select", L3 NC "No Connection", L5 IO/VREF0 (io) "IO or Reference Voltage for Bank 0", L9 IO/VREF0 (io) "IO or Reference Voltage for Bank 0", L12 GCTL3 (in) "Global Control signal 3", L13 GCLK3 (in) "Global Clock signal 3", L14 GCTL2 (in) "Global Control signal 2", L15 GCLK2 (in) "Global Clock signal 2", L18 IO/VREF5 (io) "IO or Reference Voltage for Bank 5", L22 IO/VREF5 (io) "IO or Reference Voltage for Bank 5", L24 NC "No Connection", M9 IO/VREF0 (io) "IO or Reference Voltage for Bank 0", M11 GCTL0 (in) "Global Control signal 0", M16 GCTL1 (in) "Global Control signal 1", M18 IO/VREF5 (io) "IO or Reference Voltage for Bank 5", N9 IO/VREF0 (io) "IO or Reference Voltage for Bank 0", N11 GCLK0 (in) "Global Clock signal 0", N16 GCLK1 (in) "Global Clock signal 1", N18 IO/VREF5 (io) "IO or Reference Voltage for Bank 5", R9 IO/VREF1 (io) "IO or Reference Voltage for Bank 1", R18 IO/VREF4 (io) "IO or Reference Voltage for Bank 4", T3 NC "No Connection", T5 IO/VREF1 (io) "IO or Reference Voltage for Bank 1", T9 IO/VREF1 (io) "IO or Reference Voltage for Bank 1", T11 Config_Done (out) "Flag indicating that configuration is complete", T18 IO/VREF4 (io) "IO or Reference Voltage for Bank 4", T22 IO/VREF4 (io) "IO or Reference Voltage for Bank 4", T24 NC "No Connection", U9 Data (in) "Pin to receive configuration data from the external boot PROM", U10 Reconfig (in) "Pin to start configuration of Delta39K", V6 IO/VREF1 (io) "IO or Reference Voltage for Bank 1", V10 MSEL (in) "Mode Select Pin", V11 IO/VREF2 (io) "IO or Reference Voltage for Bank 2", V12 IO/VREF2 (io) "IO or Reference Voltage for Bank 2", V15 IO/VREF3 (io) "IO or Reference Voltage for Bank 3", V16 IO/VREF3 (io) "IO or Reference Voltage for Bank 3", V21 IO/VREF4 (io) "IO or Reference Voltage for Bank 4", W9 ~{CCE} (out) "Chip select for the external boot PROM (active low)", Y8 CCLK (out) "Configuration Clock for serial interface with the external boot PROM"
part D pins: A1 GND (power) "Ground", A6 NC "No Connection", A11 NC "No Connection", A13 GND (power) "Ground", A14 GND (power) "Ground", A16 NC "No Connection", A21 NC "No Connection", A26 GND (power) "Ground", AA4 VCCIO1 (power) "VCC for I/O bank 1", AA6 GND (power) "Ground", AA21 GND (power) "Ground", AA23 VCCIO4 (power) "VCC for I/O bank 4", AC3 GND (power) "Ground", AC4 GND (power) "Ground", AC6 VCCIO2 (power) "VCC for I/O bank 2", AC11 NC "No Connection", AC16 NC "No Connection", AC21 VCCIO3 (power) "VCC for I/O bank 3", AC23 GND (power) "Ground", AC24 GND (power) "Ground", AD3 GND (power) "Ground", AD4 GND (power) "Ground", AD13 GND (power) "Ground", AD14 GND (power) "Ground", AD23 GND (power) "Ground", AD24 GND (power) "Ground", AE2 GND (power) "Ground", AE13 GND (power) "Ground", AE14 GND (power) "Ground", AE25 GND (power) "Ground", AF1 GND (power) "Ground", AF6 NC "No Connection", AF11 NC "No Connection", AF13 GND (power) "Ground", AF14 GND (power) "Ground", AF16 NC "No Connection", AF21 NC "No Connection", AF26 GND (power) "Ground", B2 GND (power) "Ground", B13 GND (power) "Ground", B14 GND (power) "Ground", B25 GND (power) "Ground", C3 GND (power) "Ground", C4 GND (power) "Ground", C13 GND (power) "Ground", C14 GND (power) "Ground", C23 GND (power) "Ground", C24 GND (power) "Ground", D3 GND (power) "Ground", D4 GND (power) "Ground", D6 VCCIO7 (power) "VCC for I/O bank 7", D11 NC "No Connection", D16 NC "No Connection", D21 VCCIO6 (power) "VCC for I/O bank 6", D23 GND (power) "Ground", D24 GND (power) "Ground", F4 VCCIO0 (power) "VCC for I/O bank 0", F6 GND (power) "Ground", F21 GND (power) "Ground", F23 VCCIO5 (power) "VCC for I/O bank 5", G7 GND (power) "Ground", G11 VCCIO7 (power) "VCC for I/O bank 7", G12 VCC (power) "Operating Voltage", G15 VCCPLL (power) "VCC for PLL", G16 VCCIO6 (power) "VCC for I/O bank 6", G20 GND (power) "Ground", H8 GND (power) "Ground", H11 VCCIO7 (power) "VCC for I/O bank 7", H12 VCCIO7 (power) "VCC for I/O bank 7", H15 VCCIO6 (power) "VCC for I/O bank 6", H16 VCCIO6 (power) "VCC for I/O bank 6", H19 GND (power) "Ground", J9 GND (power) "Ground", J18 GND (power) "Ground", L4 NC "No Connection", L7 VCC (power) "Operating Voltage", L8 VCCIO0 (power) "VCC for I/O bank 0", L19 VCCIO5 (power) "VCC for I/O bank 5", L20 VCCJTAG (power) "VCC for JTAG pins", L23 NC "No Connection", M7 VCC (power) "Operating Voltage", M8 VCCIO0 (power) "VCC for I/O bank 0", M12 GND (power) "Ground", M13 GND (power) "Ground", M14 GND (power) "Ground", M15 GND (power) "Ground", M19 VCCIO5 (power) "VCC for I/O bank 5", M20 VCC (power) "Operating Voltage", N1 GND (power) "Ground", N2 GND (power) "Ground", N3 GND (power) "Ground", N12 GND (power) "Ground", N13 GND (power) "Ground", N14 GND (power) "Ground", N15 GND (power) "Ground", N24 GND (power) "Ground", N25 GND (power) "Ground", N26 GND (power) "Ground", P1 GND (power) "Ground", P2 GND (power) "Ground", P3 GND (power) "Ground", P12 GND (power) "Ground", P13 GND (power) "Ground", P14 GND (power) "Ground", P15 GND (power) "Ground", P24 GND (power) "Ground", P25 GND (power) "Ground", P26 GND (power) "Ground", R7 VCCPRG (power) "VCC for programming Self-Boot solution embedded boot PROM", R8 VCCIO1 (power) "VCC for I/O bank 1", R12 GND (power) "Ground", R13 GND (power) "Ground", R14 GND (power) "Ground", R15 GND (power) "Ground", R19 VCCIO4 (power) "VCC for I/O bank 4", R20 VCCPRG (power) "VCC for programming Self-Boot solution embedded boot PROM", T4 NC "No Connection", T7 VCC (power) "Operating Voltage", T8 VCCIO1 (power) "VCC for I/O bank 1", T10 VCCCNFG (power) "VCC for Configuration port", T19 VCCIO4 (power) "VCC for I/O bank 4", T20 VCC (power) "Operating Voltage", T23 NC "No Connection", V9 GND (power) "Ground", V18 GND (power) "Ground", W8 GND (power) "Ground", W11 VCCIO2 (power) "VCC for I/O bank 2", W12 VCCIO2 (power) "VCC for I/O bank 2", W15 VCCIO3 (power) "VCC for I/O bank 3", W16 VCCIO3 (power) "VCC for I/O bank 3", W19 GND (power) "Ground", Y7 GND (power) "Ground", Y11 VCCCNFG (power) "VCC for Configuration port", Y12 VCCIO2 (power) "VCC for I/O bank 2", Y15 VCC (power) "Operating Voltage", Y16 VCCIO3 (power) "VCC for I/O bank 3", Y20 GND (power) "Ground"
part E pins: A2 NC "No Connection", A10 NC "No Connection", A12 NC "No Connection", A15 NC "No Connection", A17 NC "No Connection", A25 NC "No Connection", AA1 NC "No Connection", AA2 NC "No Connection", AA25 NC "No Connection", AA26 NC "No Connection", AB1 NC "No Connection", AB2 NC "No Connection", AB25 NC "No Connection", AB26 NC "No Connection", AC1 NC "No Connection", AC2 NC "No Connection", AC25 NC "No Connection", AC26 NC "No Connection", AD1 NC "No Connection", AD2 NC "No Connection", AD25 NC "No Connection", AD26 NC "No Connection", AE1 NC "No Connection", AE6 NC "No Connection", AE24 NC "No Connection", AE26 NC "No Connection", AF2 NC "No Connection", AF10 NC "No Connection", AF12 NC "No Connection", AF15 NC "No Connection", AF17 NC "No Connection", AF25 NC "No Connection", B1 NC "No Connection", B6 NC "No Connection", B24 NC "No Connection", B26 NC "No Connection", C1 NC "No Connection", C2 NC "No Connection", C25 NC "No Connection", C26 NC "No Connection", D1 NC "No Connection", D2 NC "No Connection", D25 NC "No Connection", D26 NC "No Connection", E1 NC "No Connection", E2 NC "No Connection", E25 NC "No Connection", E26 NC "No Connection", F1 NC "No Connection", F2 NC "No Connection", F25 NC "No Connection", F26 NC "No Connection", G1 NC "No Connection", G2 NC "No Connection", G25 NC "No Connection", G26 NC "No Connection", H1 NC "No Connection", H2 NC "No Connection", H25 NC "No Connection", H26 NC "No Connection", J1 NC "No Connection", J2 NC "No Connection", J25 NC "No Connection", J26 NC "No Connection", K1 NC "No Connection", K2 NC "No Connection", K25 NC "No Connection", K26 NC "No Connection", L1 NC "No Connection", L2 NC "No Connection", L25 NC "No Connection", L26 NC "No Connection", M1 NC "No Connection", M2 NC "No Connection", M25 NC "No Connection", M26 NC "No Connection", R1 NC "No Connection", R2 NC "No Connection", R25 NC "No Connection", R26 NC "No Connection", T1 NC "No Connection", T2 NC "No Connection", T25 NC "No Connection", T26 NC "No Connection", U1 NC "No Connection", U2 NC "No Connection", U25 NC "No Connection", U26 NC "No Connection", V1 NC "No Connection", V2 NC "No Connection", V25 NC "No Connection", V26 NC "No Connection", W1 NC "No Connection", W2 NC "No Connection", W25 NC "No Connection", W26 NC "No Connection", Y1 NC "No Connection", Y2 NC "No Connection", Y25 NC "No Connection", Y26 NC "No Connection"

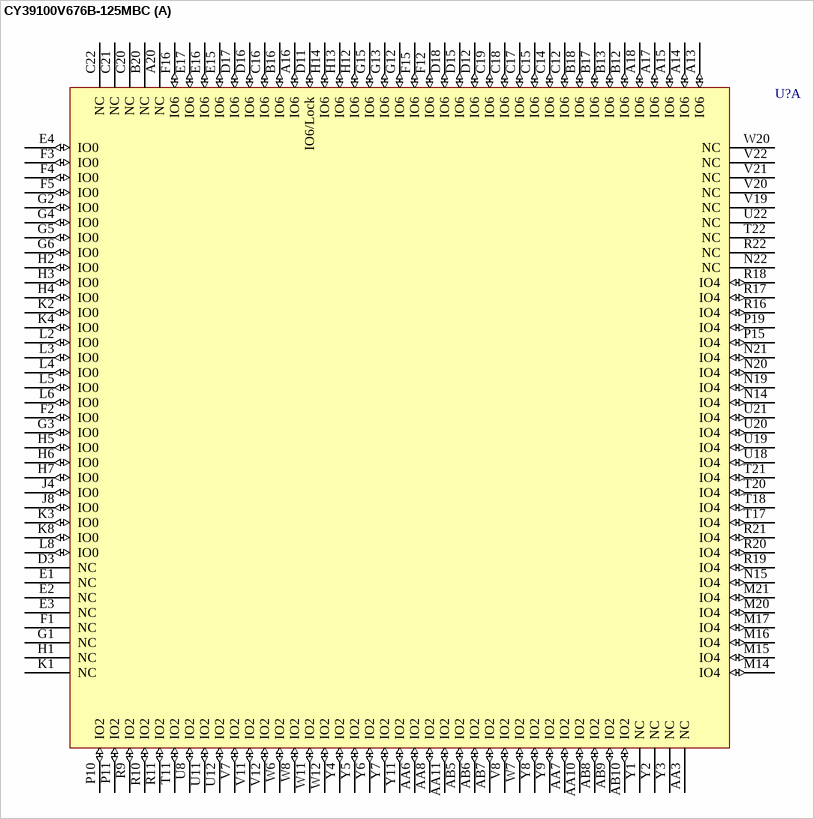
[diagram p48: symbol CY39100V676B-125MBC]

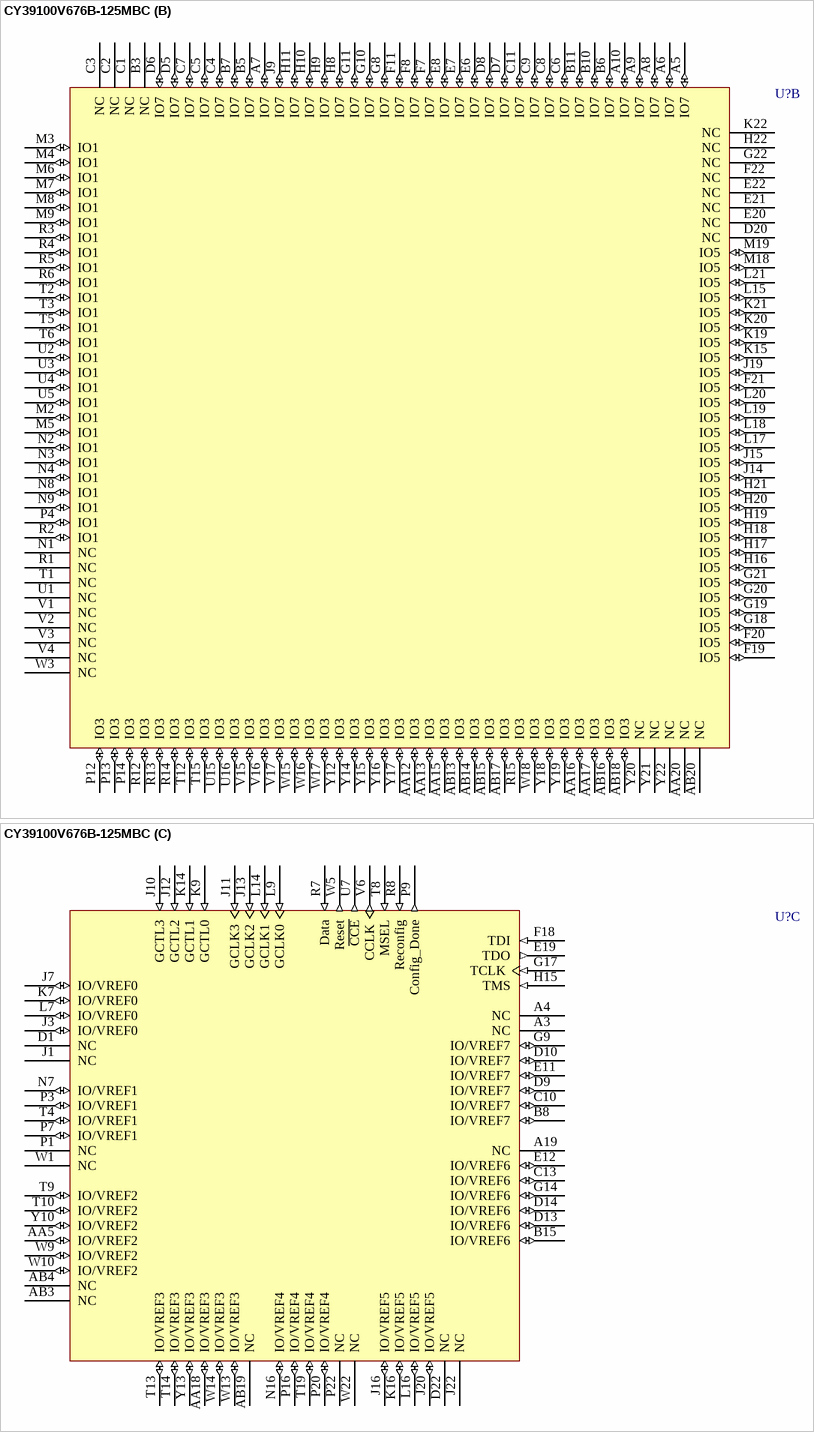
[diagram p49: symbol CY39100V676B-125MBC]

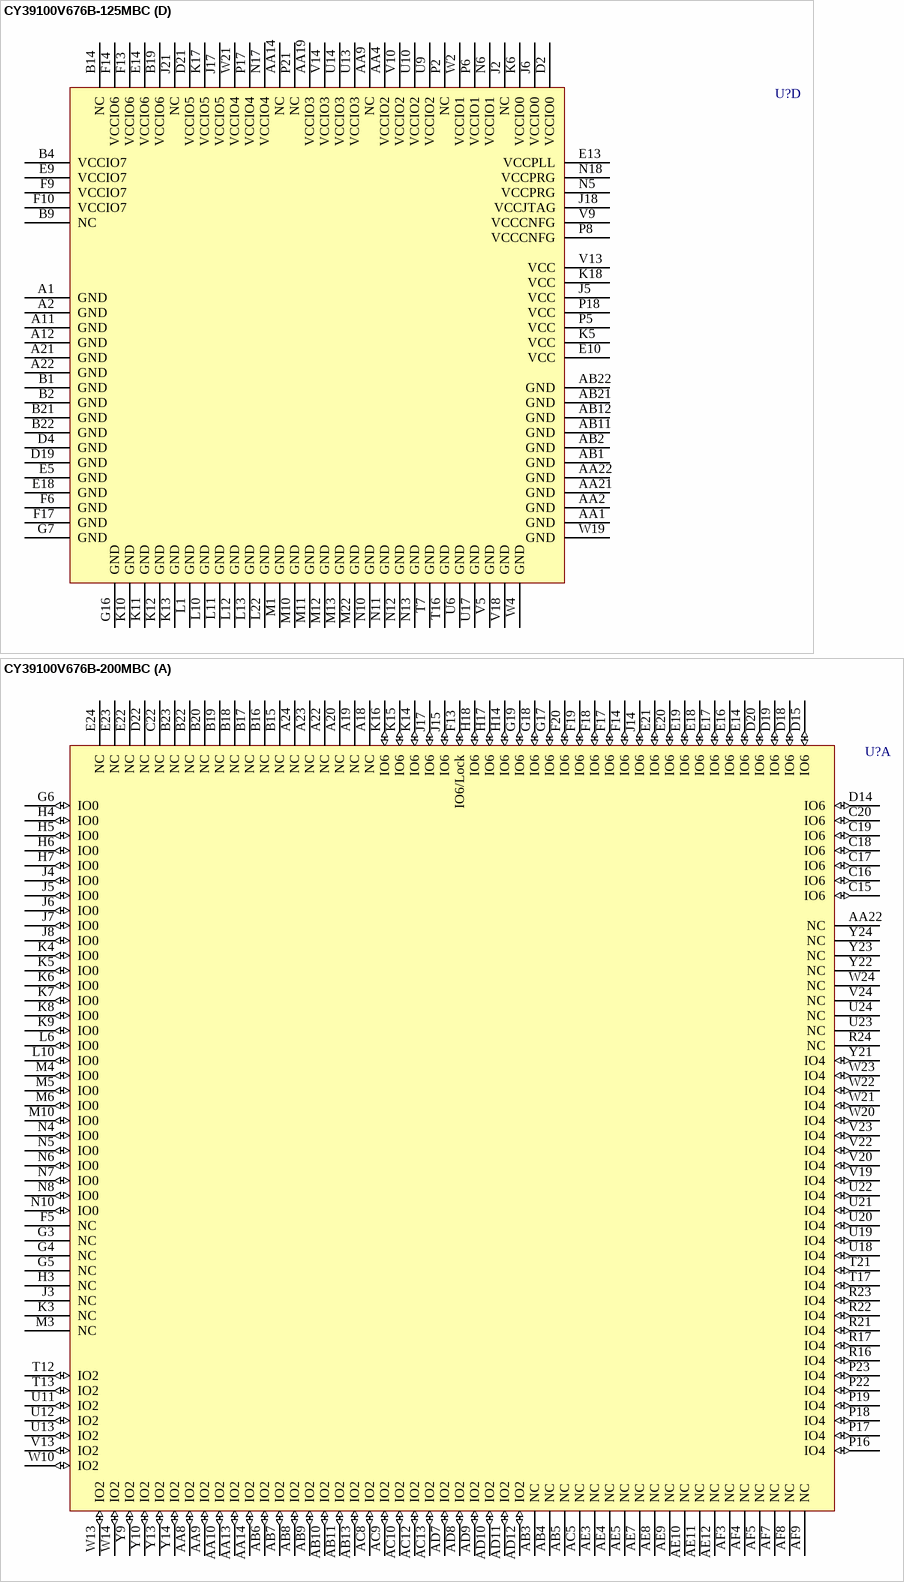
[diagram p50: symbols CY39100V676B-125MBC to CY39100V676B-200MBC]